# Altium schematic symbol library connector_rjhse-x38x-02_can.SchLib: 1 symbol
Pins are listed as number, name and electrical type; pins without a type are passive.

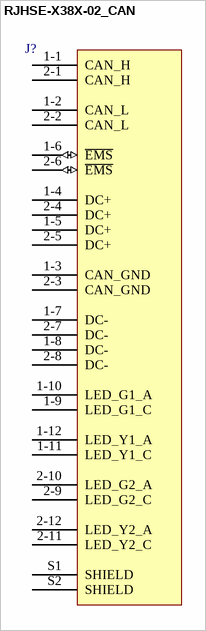
[diagram p0: symbol RJHSE-X38X-02_CAN]

## RJHSE-X38X-02_CAN
designator J?  (value not drawn)
pins: 1-1 CAN_H, 1-2 CAN_L, 1-3 CAN_GND, 1-4 DC+, 1-5 DC+, 1-6 ~{EMS} (io), 1-7 DC-, 1-8 DC-, 1-9 LED_G1_C, 1-10 LED_G1_A, 1-11 LED_Y1_C, 1-12 LED_Y1_A, 2-1 CAN_H, 2-2 CAN_L, 2-3 CAN_GND, 2-4 DC+, 2-5 DC+, 2-6 ~{EMS} (io), 2-7 DC-, 2-8 DC-, 2-9 LED_G2_C, 2-10 LED_G2_A, 2-11 LED_Y2_C, 2-12 LED_Y2_A, S1 SHIELD, S2 SHIELD